# Altium schematic symbol library 1-1734839-0.SchLib: 1 symbol
Pins are listed as number, name and electrical type; pins without a type are passive.

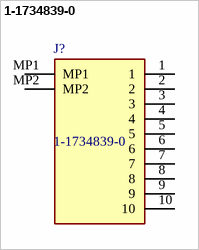
[diagram p0: symbol 1-1734839-0]

## 1-1734839-0
designator J?
FFC & FPC Connectors 0.5mm PITCH T/C 10P FPC; Manufacturer_Name: TE Connectivity; Geometry.Height: 2mm; Mouser Part Number: 571-1-1734839-0; Mouser Price/Stock: https://www.mouser.co.uk/ProductDetail/TE-Connectivity/1-1734839-0?qs=sXy4Dx%2FMQpP10O8tS9a6RA%3D%3D; Manufacturer_Part_Number: 1-1734839-0; Datasheet Link: *
footprint 117348390
pins: 1, 2, 3, 4, 5, 6, 7, 8, 9, 10, MP1, MP2